# EAGLE library part ARDUINO_NANO (library UNIT_Biblioteca_Modulos)
Arduino Nano V3.0 Overview: The Arduino Nano is a small, complete, and breadboard-friendly board based on the ATmega328 (Arduino Nano 3.x) or ATmega168 (Arduino Nano 2.x). It has more or less the same functionality of the Arduino Duemilanove, but in a different package. It lacks only a DC power jack, and works with a Mini-B USB cable instead of a standard one. The Nano was designed and is being produced by Gravitech. Specifications: Microcontroller Atmel ATmega168 or ATmega328 Operating Voltage (logic level) 5 V Input Voltage (recommended) 7-12 V Input Voltage (limits) 6-20 V Digital I/O Pins 14 (of which 6 provide PWM output) Analog Input Pins 8 DC Current per I/O Pin 40 mA Flash Memory 16 KB (ATmega168) or 32 KB (ATmega328) of which 2 KB used by bootloader SRAM 1 KB (ATmega168) or 2 KB (ATmega328) EEPROM 512 bytes (ATmega168) or 1 KB (ATmega328) Clock Speed 16 MHz Dimensions 0.73" x 1.70" Length 45 mm Width 18 mm Weigth 5 g Power: The Arduino Nano can be powered via the Mini-B USB connection, 6-20V unregulated external power supply (pin 30), or 5V regulated external power supply (pin 27). The power source is automatically selected to the highest voltage source. Memory: The ATmega168 has 16 KB of flash memory for storing code (of which 2 KB is used for the bootloader); the ATmega328 has 32 KB, (also with 2 KB used for the bootloader). The ATmega168 has 1 KB of SRAM and 512 bytes of EEPROM (which can be read and written with the EEPROM library); the ATmega328 has 2 KB of SRAM and 1 KB of EEPROM. Input and Output: Each of the 14 digital pins on the Nano can be used as an input or output, using pinMode(), digitalWrite(), and digitalRead() functions. They operate at 5 volts. Each pin can provide or receive a maximum of 40 mA and has an internal pull-up resistor (disconnected by default) of 20-50 kOhms. In addition, some pins have specialized functions. Visit Arduino - ArduinoBoardNano <https://www.arduino.cc/en/Main/ArduinoBoardNano>
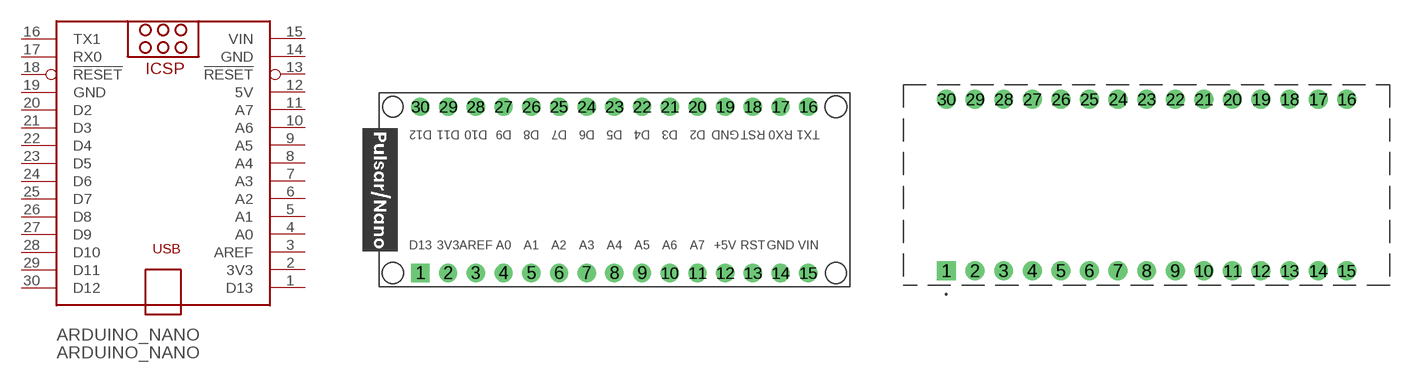
[diagram p7: symbol with the pads of ARDUINO_NANO; footprints ARDUINO_NANO, ARDUINO_NANO_DASHED_SILKSCREEN]

Designator prefix ARDUINO_NANO

## ARDUINO_NANO (CLASS: Modules; DESCRIPTION: Arduino Nano; MANUFACTURER_NAME: Arduino; MANUFACTURER_PART_NUMBER: Nano; VENDOR_PART_NUMBER: AR1034; VENDOR_PRICE-STOCK: https://uelectronics.com/producto/arduino-nano-3-0-con-cable-sin-cable-shield/)  [ARDUINO_NANO]
1  D13
2  3V3  out
3  AREF  in
4  A0
5  A1
6  A2
7  A3
8  A4
9  A5
10  A6
11  A7
12  5V  pwr
13  !RESET  in
14  GND  pwr
15  VIN  pwr
16  TX1
17  RX0
18  !RESET  in
19  GND  pwr
20  D2
21  D3
22  D4
23  D5
24  D6
25  D7
26  D8
27  D9
28  D10
29  D11
30  D12

## ARDUINO_NANODASHED_SILKSCREEN  [ARDUINO_NANO_DASHED_SILKSCREEN]
Pads as for ARDUINO_NANO

## ARDUINO_NANONANO  [PULSAR]
Pads as for ARDUINO_NANO

## ARDUINO_NANOSMD (CLASS: Modules)  [NANO/PULSAR_SMD]
3V3  3V3  out
+5V  5V  pwr
A6  A6
AREF  AREF  in
D0  RX0
D1  TX1
D2  D2
D3  D3
D4  D4
D5  D5
D6  D6
D7  D7
D8  D8
D9  D9
D10  D10
D11  D11
D12  D12
D13  D13
D14  A0
D15  A1
D16  A2
D17  A3
D18  A4
D19  A5
GND  GND  pwr
GND1  GND  pwr
RGB  A7
RST  !RESET  in
RST1  !RESET  in
VIN  VIN  pwr

## Footprint ARDUINO_NANO (pad centres in mm)
Arduino Nano V3.0 The Nano was designed and is being produced by Gravitech. Gravitech Arduino Nano V3.0 <http://www.gravitech.us/arna30wiatp.html>
drill 0.9 pad 1.676 square: 1 -17.78,-7.62
drill 0.9 pad 1.676: 2 -15.24,-7.62; 3 -12.7,-7.62; 4 -10.16,-7.62; 5 -7.62,-7.62; 6 -5.08,-7.62; 7 -2.54,-7.62; 8 0,-7.62; 9 2.54,-7.62; 10 5.08,-7.62; 11 7.62,-7.62; 12 10.16,-7.62; 13 12.7,-7.62; 14 15.24,-7.62; 15 17.78,-7.62; 16 17.78,7.62; 17 15.24,7.62; 18 12.7,7.62; 19 10.16,7.62; 20 7.62,7.62; 21 5.08,7.62; 22 2.54,7.62; 23 0,7.62; 24 -2.54,7.62; 25 -5.08,7.62; 26 -7.62,7.62; 27 -10.16,7.62; 28 -12.7,7.62; 29 -15.24,7.62; 30 -17.78,7.62

## Footprint ARDUINO_NANO_DASHED_SILKSCREEN (pad centres in mm)
Arduino Nano V3.0 The Nano was designed and is being produced by Gravitech. Gravitech Arduino Nano V3.0 <http://www.gravitech.us/arna30wiatp.html>
drill 0.9 pad 1.676 square: 1 -20.32,-7.62
drill 0.9 pad 1.676: 2 -17.78,-7.62; 3 -15.24,-7.62; 4 -12.7,-7.62; 5 -10.16,-7.62; 6 -7.62,-7.62; 7 -5.08,-7.62; 8 -2.54,-7.62; 9 0,-7.62; 10 2.54,-7.62; 11 5.08,-7.62; 12 7.62,-7.62; 13 10.16,-7.62; 14 12.7,-7.62; 15 15.24,-7.62; 16 15.24,7.62; 17 12.7,7.62; 18 10.16,7.62; 19 7.62,7.62; 20 5.08,7.62; 21 2.54,7.62; 22 0,7.62; 23 -2.54,7.62; 24 -5.08,7.62; 25 -7.62,7.62; 26 -10.16,7.62; 27 -12.7,7.62; 28 -15.24,7.62; 29 -17.78,7.62; 30 -20.32,7.62

## Footprint PULSAR (pad centres in mm)
drill 1.02: 1 -17.78,-7.62; 2 -15.24,-7.62; 3 -12.7,-7.62; 4 -10.16,-7.62; 5 -7.62,-7.62; 6 -5.08,-7.62; 7 -2.54,-7.62; 8 0,-7.62; 9 2.54,-7.62; 10 5.08,-7.62; 11 7.62,-7.62; 12 10.16,-7.62; 13 12.7,-7.62; 14 15.24,-7.62; 15 17.78,-7.62; 16 17.78,7.62; 17 15.24,7.62; 18 12.7,7.62; 19 10.16,7.62; 20 7.62,7.62; 21 5.08,7.62; 22 2.54,7.62; 23 0,7.62; 24 -2.54,7.62; 25 -5.08,7.62; 26 -7.62,7.62; 27 -10.16,7.62; 28 -12.7,7.62; 29 -15.24,7.62; 30 -17.78,7.62

## Footprint NANO/PULSAR_SMD (pad centres in mm)
smd 1.02 x 1.9: 3V3 -15.24,-9.27; +5V 10.16,-9.27; A6 5.08,-9.27; AREF -12.7,-5.97; D0 15.24,5.97; D1 17.78,9.27; D2 7.62,9.27; D3 5.08,5.97; D4 2.54,9.27; D5 0,5.97; D6 -2.54,9.27; D7 -5.08,5.97; D8 -7.62,9.27; D9 -10.16,5.97; D10 -12.7,9.27; D11 -15.24,5.97; D12 -17.78,9.27; D13 -17.78,-5.97; D14 -10.16,-9.27; D15 -7.62,-5.97; D16 -5.08,-9.27; D17 -2.54,-5.97; D18 0,-9.27; D19 2.54,-5.97; GND 15.24,-9.27; GND1 10.16,5.97; RGB 7.62,-5.97; RST 12.7,-5.97; RST1 12.7,9.27; VIN 17.78,-5.97